# Altium schematic symbol library C&K_Slide_Switch_DPDT_SMT.SchLib: 1 symbol
Pins are listed as number, name and electrical type; pins without a type are passive.

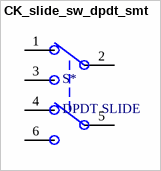
[diagram p0: symbol CK_slide_sw_dpdt_smt]

## CK_slide_sw_dpdt_smt
designator S*, comment DPDT SLIDE
SWITCH SLIDE DPDT 300MA 6V; Manufacturer 1: C&K; Manufacturer Part Number 1: JS202011SCQN; Supplier 1: Digi-Key; Supplier Part Number 1: 401-2002-1-ND
footprint CK_slide_sw_dpdt_smt (SWITCH SLIDE DPDT 300MA 6V)
pins: 1, 2, 3, 4, 5, 6